# Altium schematic symbol library Devel_AirScoutSchLibV3.0.SchLib: 54 symbols
Pins are listed as number, name and electrical type; pins without a type are passive.

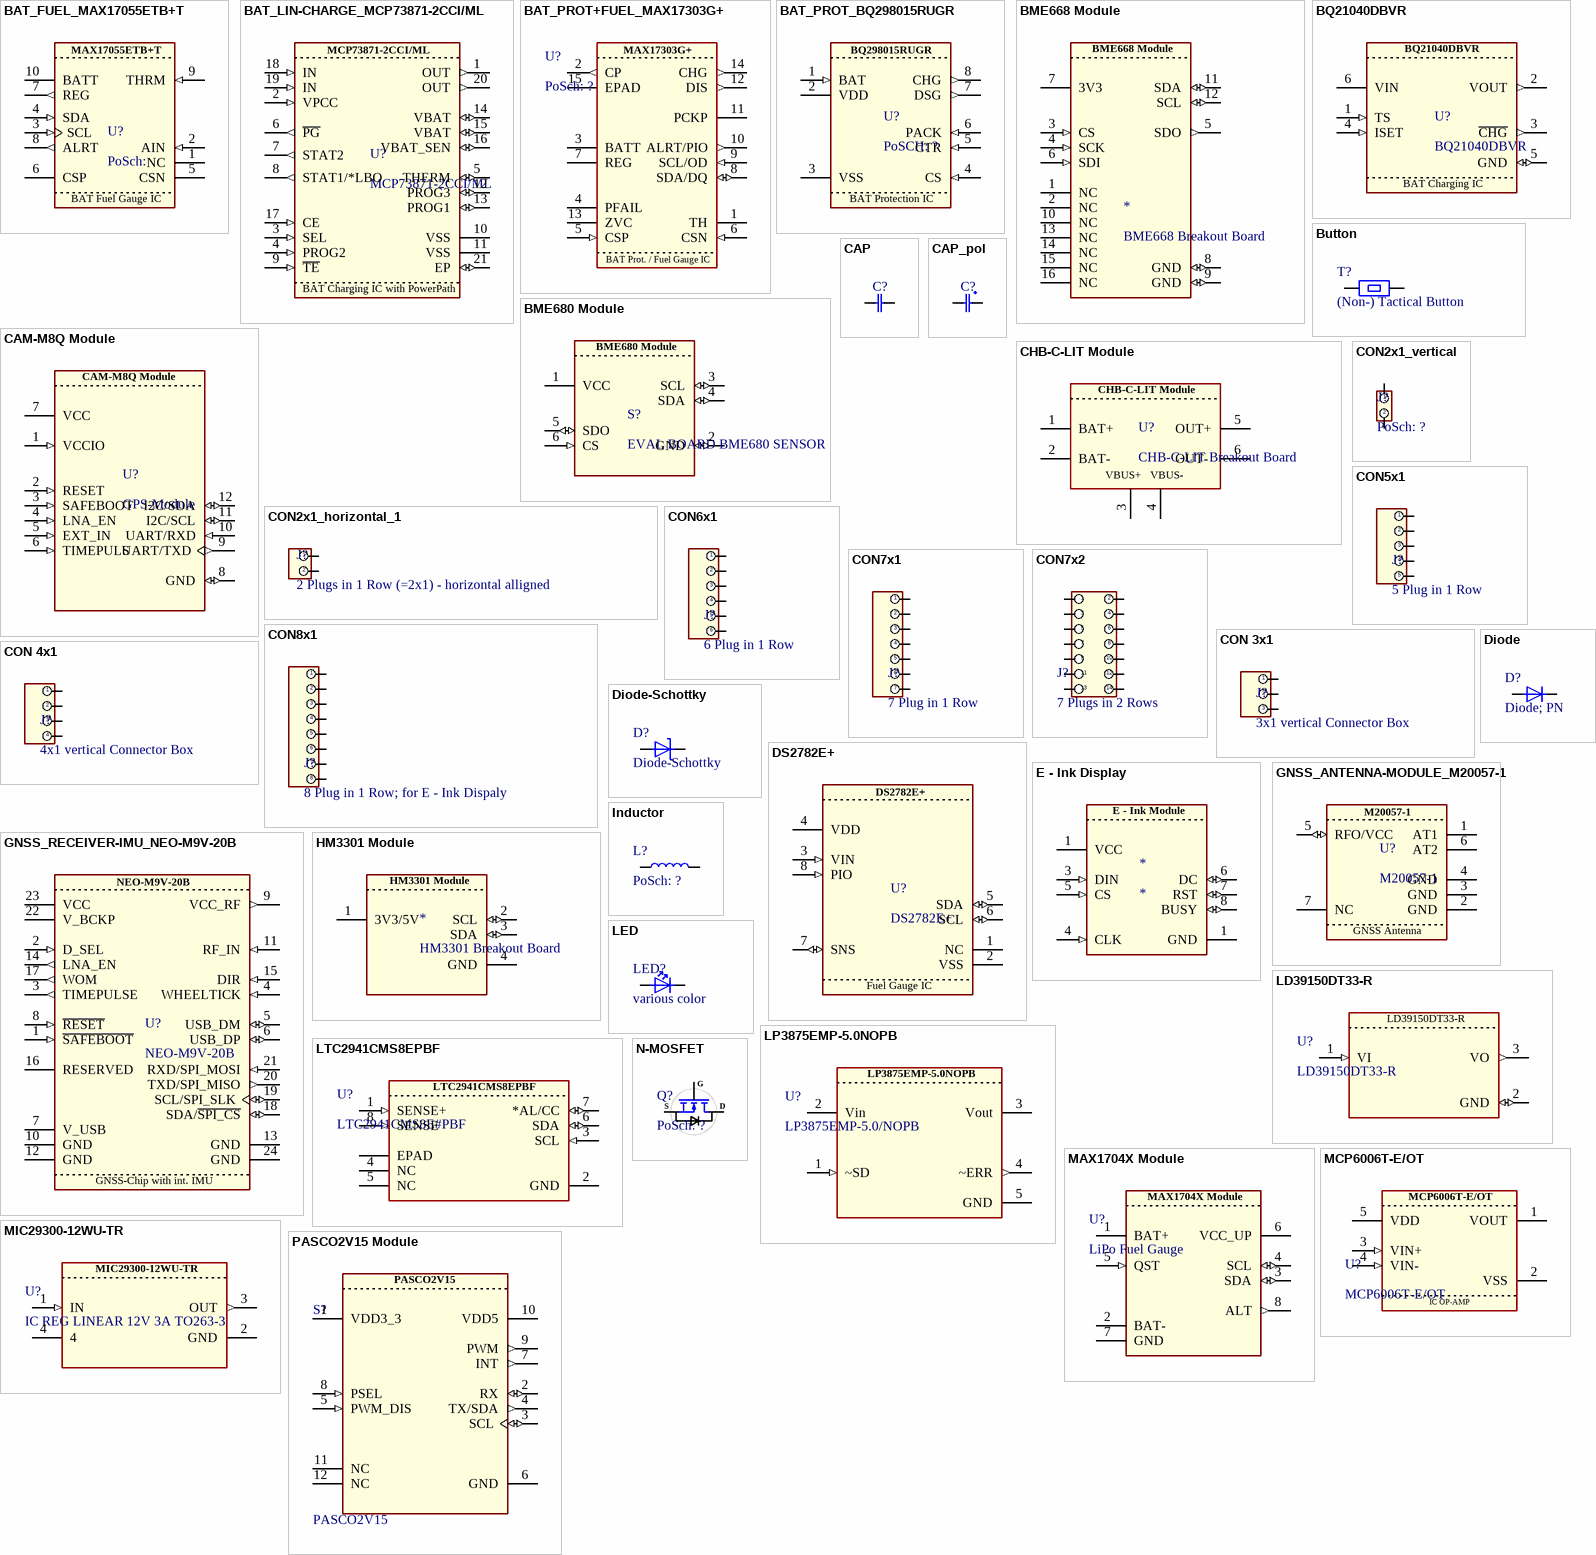
[diagram p0: symbols BAT_FUEL_MAX17055ETB+T to PASCO2V15 Module]

## BAT_FUEL_MAX17055ETB+T
designator U?, comment PoSch:
MAX17055ETB+T, Battery Battery Monitor IC Multi-Chemistry 10-TDFN (2.5x2); MF: Maxim Integrated Products; Check_prices: https://www.snapeda.com/parts/MAX17055ETB+T/Maxim+Integrated/view-part/?ref=eda; Package: None; MP: MAX17055ETB+T; Case: 10-WFDFN mit freiliegendem Pad; Availability: In Stock; Purchase-URL: https://pricing.snapeda.com/search/part/MAX17055ETB+T/?ref=eda; SnapEDA_Link: https://www.snapeda.com/parts/MAX17055ETB+T/Maxim+Integrated/view-part/?ref=snap; Price: None; Supplier 1: Farnell; Supplier Part Number 1: MAX17055ETB+T; ComponentLink1Description: Datasheet; ComponentLink1URL: https://www.analog.com/media/en/technical-documentation/data-sheets/MAX17055.pdf
footprint BAT_FUEL_MAX17055ETB+T (MAX17055ETB+T Footprint; with 3D Model)
pins: 1 NC, 2 AIN (in), 3 SCL (in), 4 SDA (in), 5 CSN (power), 6 CSP (power), 7 REG (out), 8 ALRT (out), 9 THRM (in), 10 BATT (power)
text: BAT Fuel Gauge IC

## BAT_LIN-CHARGE_MCP73871-2CCI/ML
designator U?, comment MCP73871-2CCI/ML
MCP73871-2CCI/ML; Charger IC Lithium Ion/Polymer 20-QFN (4x4); MF: Microchip Technology; Package: QFN-20 Microchip; Price: None; Check_prices: https://www.snapeda.com/parts/MCP73871-2CCI/ML/Microchip/view-part/?ref=eda; Value: *; SnapEDA_Link: https://www.snapeda.com/parts/MCP73871-2CCI/ML/Microchip/view-part/?ref=snap; MP: MCP73871-2CCI/ML; Availability: In Stock; Purchase-URL: https://pricing.snapeda.com/search/part/MCP73871-2CCI/ML/?ref=eda; Supplier 1: Farnell; Supplier Part Number 1: MCP73871-2CCI/ML; ComponentLink1Description: Datasheet; ComponentLink1URL: https://www.mouser.at/datasheet/3/282/1/MCP73871_Data_Sheet_DS20002090F.pdf
footprint BAT_LIN-CHARGE_MCP73871-2CCI/ML (Footprint for MCP73871-2CCI/ML)
pins: 1 OUT (out), 2 VPCC (in), 3 SEL (in), 4 PROG2 (in), 5 THERM (io), 6 ~{PG} (out), 7 STAT2 (out), 8 STAT1/*LBO (out), 9 ~{TE} (in), 10 VSS (power), 11 VSS (power), 12 PROG3 (io), 13 PROG1 (io), 14 VBAT (io), 15 VBAT (io), 16 VBAT_SEN (io), 17 CE (in), 18 IN (in), 19 IN (in), 20 OUT (out), 21 EP (io)
text: BAT Charging IC with PowerPath

## BAT_PROT+FUEL_MAX17303G+
designator U?, comment PoSch: ?
MAX17303G+; 1-Cell ModelGauge m5 EZ Fuel Gauge with Protector, Internal Self-Discharge Detection and SHA-256 Authentication; Manufacturer_Name: Analog Devices Inc; Copyright: Copyright (C) 2025 Ultra Librarian. All rights reserved.; Manufacturer_Part_Number: MAX17303G+; RefDes: RefDes; Type: Type; ComponentLink1Description: Datasheet; ComponentLink1URL: https://www.analog.com/media/en/technical-documentation/data-sheets/max17300-max17313.pdf; Case: 14-TDFN (3x3); Supplier 1: Farnell; Supplier Part Number 1: MAX17303G+
footprint 21-0137I_T1433-2_MXM
pins: 1 TH, 2 CP (out), 3 BATT, 4 PFAIL, 5 CSP (in), 6 CSN (in), 7 REG, 8 SDA/DQ (io), 9 SCL/OD (in), 10 ALRT/PIO (out), 11 PCKP, 12 DIS (out), 13 ZVC, 14 CHG (out), 15 EPAD
text: BAT Prot. / Fuel Gauge IC

## BAT_PROT_BQ298015RUGR
designator U?, comment PoSCH: ?
Battery Battery Protection IC Lithium Ion/Polymer 8-X2QFN (1.5x1.5); MF: NXP USA; MP: NT3H1101W0FHK; Package: XQFN-8 NXP Semiconductors; Price: None; Case: 8-X2QFN (1.5x1.5); SnapEDA_Link: https://www.snapeda.com/parts/NT3H1101W0FHK/NXP+USA+Inc./view-part/?ref=snap; Availability: Not in stock; Check_prices: https://www.snapeda.com/parts/NT3H1101W0FHK/NXP+USA+Inc./view-part/?ref=eda; ComponentLink1Description: Datasheet; ComponentLink1URL: https://www.ti.com/lit/ds/symlink/bq2980.pdf; Supplier 1: DigiKey; Supplier Part Number 1: 296-BQ298015RUGRCT-ND
footprint BAT_PROT_BQ298015RUGR (BQ298015RUGR Footprint; with 3D-Model)
pins: 1 BAT (in), 2 VDD (power), 3 VSS, 4 CS (in), 5 CTR (in), 6 PACK (in), 7 DSG (out), 8 CHG (out)
text: BQ298015RUGR; BAT Protection IC

## BME668 Module
designator *, comment BME668 Breakout Board
BME668: Air Quality Sensors Combined gas, humidity, pressure and temperature sensor; The sensor is installed on an Breakout-Board wich has oll the needed peripherie.; ComponentLink1Description: Datasheet; ComponentLink1URL: chrome-extension://efaidnbmnnnibpcajpcglclefindmkaj/https://docs.rs-online.com/c92c/A700000008937254.pdf
pins: 1 NC (hiz), 2 NC (hiz), 3 CS (in), 4 SCK (in), 5 SDO (out), 6 SDI (in), 7 3V3 (power), 8 GND (io), 9 GND (io), 10 NC (hiz), 11 SDA (io), 12 SCL (io), 13 NC (hiz), 14 NC (hiz), 15 NC (hiz), 16 NC (hiz)

## BME680 Module
designator S?, comment EVAL BOARD BME680 SENSOR
BME680 - Gas, Feuchtigkeit, Druck, Temperatur Evaluierungsboards - Sensoren; ComponentLink1Description: Datasheet; ComponentLink1URL: chrome-extension://efaidnbmnnnibpcajpcglclefindmkaj/https://mm.digikey.com/Volume0/opasdata/d220001/medias/docus/854/PIM357_Web.pdf
footprint PIM357 (With BME680 Sensor)
pins: 1 VCC (power), 2 GND (io), 3 SCL (io), 4 SDA (io), 5 SDO (io), 6 CS (in)

## BQ21040DBVR
designator U?
OVP (Over-Voltage-Protection), SCP (Short-Circuit- Protection), OTP (Over - Temp. - Prot.); 1-cell, 0.8-A Li-ion and Li-polymer battery charger; MF: Texas Instruments; SnapEDA_Link: https://www.snapeda.com/parts/BQ21040DBVR/Texas+Instruments/view-part/?ref=snap; Package: SOT-23-6 Texas Instruments; Value: *; MP: BQ21040DBVR; Check_prices: https://www.snapeda.com/parts/BQ21040DBVR/Texas+Instruments/view-part/?ref=eda
footprint SOT95P280X145-6N
pins: 1 TS (in), 2 VOUT (out), 3 ~{CHG} (out), 4 ISET (in), 5 GND (io), 6 VIN (power)
text: BAT Charging IC

## Button
designator T?, comment (Non-) Tactical Button
This schematic footprint canm be used for various buttons, such as tactical ones or not. Be aware that all footprints for each part is added correctly
pins: 1, 1

## CAM-M8Q Module
designator U?, comment GPS-Module
Is used to locate the objects wehre it is implemented, The Breakout Board uses the CAM-M8Q-0 for location detection; ComponentLink1Description: Datasheet IC; ComponentLink1URL: chrome-extension://efaidnbmnnnibpcajpcglclefindmkaj/https://content.u-blox.com/sites/default/files/CAM-M8-FW3_DataSheet_%28UBX-15031574%29.pdf
footprint CAM8MQ-Mod (For SMD Soldering)
pins: 1 VCCIO (in), 2 RESET (in), 3 SAFEBOOT (in), 4 LNA_EN (in), 5 EXT_IN (in), 6 TIMEPULS (in), 7 VCC (power), 8 GND (io), 9 UART/TXD (out), 10 UART/RXD (in), 11 I2C/SCL (io), 12 I2C/SDA (io)

## CAP
designator C?, comment Capacitor with no polarity  (value not drawn)
This is an unpoled capacitor such as an ceramik or an Multi - Layer Cap. Put in here the description of your component.; Value: *
footprint CAPC340180_140N_KEM (Caseform: 1206 Imperial; for Caps)
pins: 1, 2

## CAP_pol
designator C?, comment Capacitor with polarity  (value not drawn)
This is an poled capacitor such as an ELKOP. Insure proper polartiy when connecting the pins of the cap. Put in here the description of your component.; Value: *
footprint CAPC3225X270N (CAP 1210 Imperial)
pins: 1 M, 2 P

## CHB-C-LIT Module
designator U?, comment CHB-C-LIT Breakout Board
Charging Board via USB-C; Battery is connected via Cabel on two Ports; The circuit gets supplied via other pads from the board; Attetion: This board should be replaced with a better one
pins: 1 BAT+ (power), 2 BAT- (power), 3 VBUS+ (power), 4 VBUS- (power), 5 OUT+ (power), 6 OUT-  (power)

## CON2x1_horizontal_1
designator J?, comment 2 Plugs in 1 Row (=2x1) - horizontal alligned
Can be used as connection point with cables between two board or to create a connectrion to a sensor
footprint JST_B2B-PH-SM4-TB
pins: 1 +, 2 -

## CON2x1_vertical
designator J?, comment PoSch: ?
PlugType:; ComponentLink1Description: Datasheet Plug; ComponentLink1URL: *
pins: 1 +, 2 -

## CON5x1
designator J?, comment 5 Plug in 1 Row
This part is used to plug in cables or a siutable Plug . So in that way a connection can be achieved between boards.
pins: 1, 2, 3, 4, 5

## CON6x1
designator J?, comment 6 Plug in 1 Row
This part is used to plug in cables or a siutable Plug . So in that way a connection can be achieved between boards.
footprint JST_B6B-PH-K-S
pins: 1, 2, 3, 4, 5, 6

## CON7x1
designator J?, comment 7 Plug in 1 Row
This part is used to plug in cables or a siutable Plug . So in that way a connection can be achieved between boards.
pins: 1, 2, 3, 4, 5, 6, 7

## CON7x2
designator J?, comment 7 Plugs in 2 Rows
This part is used to plug in cables or a siutable Plug . So in that way a connection can be achieved between boards.
footprint CONN_14POL_SAMTEC (0705430013)
pins: 1, 2, 3, 4, 5, 6, 7, 8, 9, 10, 11, 12, 13, 14

## CON8x1
designator J?, comment 8 Plug in 1 Row; for E - Ink Dispaly
This part is used to plug in cables or a siutable Plug . So in that way a connection can be achieved between boards.
pins: 1, 2, 3, 4, 5, 6, 7, 8

## CON 3x1
designator J?, comment 3x1 vertical Connector Box
Can be used to create connectivity between two plates with cables or similar.
footprint CONN_3POL_SAMTEC (0705430013)
pins: 1, 2, 3

## CON 4x1
designator J?, comment 4x1 vertical Connector Box
Can be used to create connectivity between two plates with cables or similar.
footprint SAMTEC_IDMS-04-S-02.00
pins: 1, 2, 3, 4

## Diode
designator D?, comment Diode; PN
Is used to block of current flow in one direction, Pay attetion to the maximum charactertcs
pins: 1 A, 2 K

## Diode-Schottky
designator D?
Is used to block of current flow in one direction, Pay attetion to the maximum charactertcs; In compariosion to other normal diodes the drop voltage UD is around 0.3V, so much smaller zthan an typical one
footprint SMB_DIO
pins: A, K

## DS2782E+
designator U?
UVP (Undervoltageprotection), Battery Battery Monitor IC Lithium Ion/Polymer 8-TSSOP; Package: None; Price: None; Value: *; MP: DS2782E+; Availability: Unavailable
footprint SOP65P640X110-8N
pins: 1 NC (power), 2 VSS (power), 3 VIN (in), 4 VDD (power), 5 SDA (io), 6 SCL (io), 7 SNS (io), 8 PIO (in)
text: Fuel Gauge IC

## E - Ink Display
designator *
pins: 1 VCC (power), 1 GND (power), 3 DIN (in), 4 CLK (in), 5 CS (in), 6 DC (io), 7 RST (io), 8 BUSY (io)
text: E - Ink Module

## GNSS_ANTENNA-MODULE_M20057-1
designator U?, comment M20057-1
M20057-1, 1.584GHz GNSS Chip RF Antenna 1.559GHz ~ 1.609GHz - Solder Surface Mount; MF: Antenova; SnapEDA_Link: https://www.snapeda.com/parts/M20057-1/Antenova/view-part/?ref=snap; Package: None; Value: *; MP: M20057-1; Check_prices: https://www.snapeda.com/parts/M20057-1/Antenova/view-part/?ref=eda; Supplier 1: Arrow Electronics; Supplier Part Number 1: M20057-1; ComponentLink1Description: Datasheet; ComponentLink1URL: https://www.antenova.com/active-gnss-module-m20057-1
footprint GNSS_ANTENNA-MODULE_M20057-1 (Footprint for M20057-1)
pins: 1 AT1, 2 GND (power), 3 GND (power), 4 GND (power), 5 RFO/VCC (io), 6 AT2, 7 NC
text: GNSS Antenna

## GNSS_RECEIVER-IMU_NEO-M9V-20B
designator U?, comment NEO-M9V-20B
NEO-M9V-20B, NEO-M9V RF Receiver BeiDou, Galileo, GLONASS, GNSS, GPS 1.561GHz -160dBm Not Included; MF: u-blox; SnapEDA_Link: https://www.snapeda.com/parts/NEO-M9V-20B/u-blox/view-part/?ref=snap; Package: None; Value: *; MP: NEO-M9V-20B; Check_prices: https://www.snapeda.com/parts/NEO-M9V-20B/u-blox/view-part/?ref=eda; Supplier 1: DigiKey; Supplier Part Number 1: 672-NEO-M9V-20BCT-ND; ComponentLink1Description: Datasheet; ComponentLink1URL: https://content.u-blox.com/sites/default/files/NEO-M9V-20B_DataSheet_UBX-21029781.pdf
footprint GNSS_RECEIVER-IMU_NEO-M9V-20B (Footprint for NEO-M9V-20B Chip)
pins: 1 ~{SAFEBOOT} (in), 2 D_SEL (in), 3 TIMEPULSE (out), 4 WHEELTICK (in), 5 USB_DM (io), 6 USB_DP (io), 7 V_USB (power), 8 ~{RESET} (in), 9 VCC_RF (out), 10 GND (power), 11 RF_IN (in), 12 GND (power), 13 GND (power), 14 LNA_EN (out), 15 DIR (in), 16 RESERVED, 17 WOM (out), 18 SDA/~{SPI_CS} (io), 19 SCL/SPI_SLK (io), 20 TXD/SPI_MISO (out), 21 RXD/SPI_MOSI (in), 22 V_BCKP (power), 23 VCC (power), 24 GND (power)
text: GNSS-Chip with int. IMU

## HM3301 Module
designator *, comment HM3301 Breakout Board
Der HM3301-Sensor ermittelt die Feinstaub-Partikelkonzentration in der Luft mit Hilfe des Streulichtverfahrens ab einer Partikelgröße von 0,3 µm.; ComponentLink1Description: Datasheet; ComponentLink1URL: chrome-extension://efaidnbmnnnibpcajpcglclefindmkaj/https://joy-it.net/files/files/Produkte/SEN-HM3301/SEN-HM3301_Datenblatt_2022-07-15.pdf; ComponentLink2Description: EU Component; ComponentLink2URL: https://joy-it.net/de/products/sen-hm3301
pins: 1 3V3/5V, 2 SCL (io), 3 SDA (io), 4 GND

## Inductor
designator L?, comment PoSch: ?
This is an inductor template for various sizes for inductors; Value: *
footprint IND_FDSD0420-H-100M=P3
pins: 1, 2

## LD39150DT33-R
designator U?
Ultra low drop BiCMOS voltage regulator; Manufacturer_Name: STMicroelectronics; Copyright: Copyright (C) 2025 Ultra Librarian. All rights reserved.; Manufacturer_Part_Number: LD39150DT33-R; Datasheet: https://www.st.com/resource/en/datasheet/ld39150.pdf; RefDes: RefDes; Type: Type
footprint SOT_0DT33-R_STM
pins: 1 VI (in), 2 GND (io), 3 VO (out)

## LED
designator LED?, comment various color
LED in diffrent colors
footprint LED_LTST-C150GKT_LTO
pins: 1 A, 2 K

## LP3875EMP-5.0NOPB
designator U?, comment LP3875EMP-5.0/NOPB
IC REG LINEAR 5V 1.5A SOT-223-5; Digikey Part-Nbr.: LP3875EMP-5.0/NOPBTR-ND; Manufacturer_Name: Texas Instruments; Type: LP3875EMP-1.8; Copyright: Copyright (C) 2025 Ultra Librarian. All rights reserved.; Manufacturer_Part_Number: LP3875EMP-5.0/NOPB; Datasheet: https://www.ti.com/lit/gpn/lp3875; RefDes: RefDes
footprint MP05A
pins: 1 ~SD (in), 2 Vin (power), 3 Vout (power), 4 ~ERR (out), 5 GND

## LTC2941CMS8EPBF
designator U?, comment LTC2941CMS8E#PBF
Battery Gas Gauge with I2C Interface; Manufacturer_Name: Analog Devices Inc; Copyright: Copyright (C) 2025 Ultra Librarian. All rights reserved.; Manufacturer_Part_Number: LTC2941CMS8E#PBF; Datasheet: https://www.analog.com/media/en/technical-documentation/data-sheets/LTC2941.pdf; RefDes: RefDes; Type: Type
footprint MSE_8_ADI-L
pins: 1 SENSE+ (in), 2 GND (power), 3 SCL (in), 4 NC, 5 NC, 6 SDA (io), 7 *AL/CC (io), 8 SENSE (in), EPAD

## MAX1704X Module
designator U?, comment LiPo Fuel Gauge
footprint MAX1704X Module (Breakout Board)
pins: 1 BAT+ (power), 2 BAT- (power), 3 SDA (io), 4 SCL (io), 5 QST (in), 6 VCC_UP (power), 7 GND (power), 8 ALT (out)

## MCP6006T-E/OT
designator U?
IC OPAMP GP 1 CIRCUIT SOT23-5
footprint SOT23-5-AP2202K_DIO-M
pins: 1 VOUT (power), 2 VSS (power), 3 VIN+ (in), 4 VIN- (in), 5 VDD (power)
text: IC OP-AMP

## MIC29300-12WU-TR
designator U?, comment IC REG LINEAR 12V 3A TO263-3
PMIC - Spannungsregler - Linear Positiv Fest 1 Ausgang 3A TO-263-3; Manufacturer_Name: Microchip; Manufacturer_Part_Number: MIC29300-12WU-TR; Copyright: Copyright (C) 2025 Ultra Librarian. All rights reserved.; RefDes: RefDes; Type: Type
footprint TO-263-3_MCH-M
pins: 1 IN (in), 2 GND (power), 3 OUT (out), 4

## N-MOSFET
designator Q?, comment PoSch: ?
In this component, the parasitic diode is included because it plays an important rolw hen analysing networks; ComponentLink1Description: Datasheet; ComponentLink1URL: *
pins: 1 D, 2 G, 3 S

## PASCO2V15 Module
designator S?, comment PASCO2V15
XENSIV PAS CO2 1.5; Alternate View: No; Symbol Type: XENSIV PAS CO2 1.5; Multiple Parts: No; ComponentLink1Description: Datasheet; ComponentLink1URL: chrome-extension://efaidnbmnnnibpcajpcglclefindmkaj/https://www.infineon.com/assets/row/public/documents/24/49/infineon-pasco2v01-datasheet-en.pdf?fileId=8ac78c8c80027ecd01809278f1af1ba2
footprint IFX-SMD-LG-MLGA-14-1-V_MODUL (Module, 2.54 mm Pitch, 14 Pin, 14.00 mm W X 13.80 mm L X 7.68 mm H Body)
pins: 1 VDD3_3 (power) "3.3V digital power supply", 2 RX (io) "UART receiver pin (3.3V domain)", 3 SCL (io) "I2C clock pin (3.3V domain)", 4 TX/SDA (out) "UART transmitter pin (3.3V domain) / I2C data pin (3.3V domain)", 5 PWM_DIS (in) "PWM disable input pin (3.3V domain)", 6 GND (power) "Ground", 7 INT (out) "Interrupt output pin (3.3V domain)", 8 PSEL (in) "Communication interface select input pin (3.3V domain)", 9 PWM (out) "PWM output pin (3.3V domain)", 10 VDD5 (power) "5V power supply for the IR emitter", 11 NC (power) "Connected to Ground", 12 NC "Not Connected"

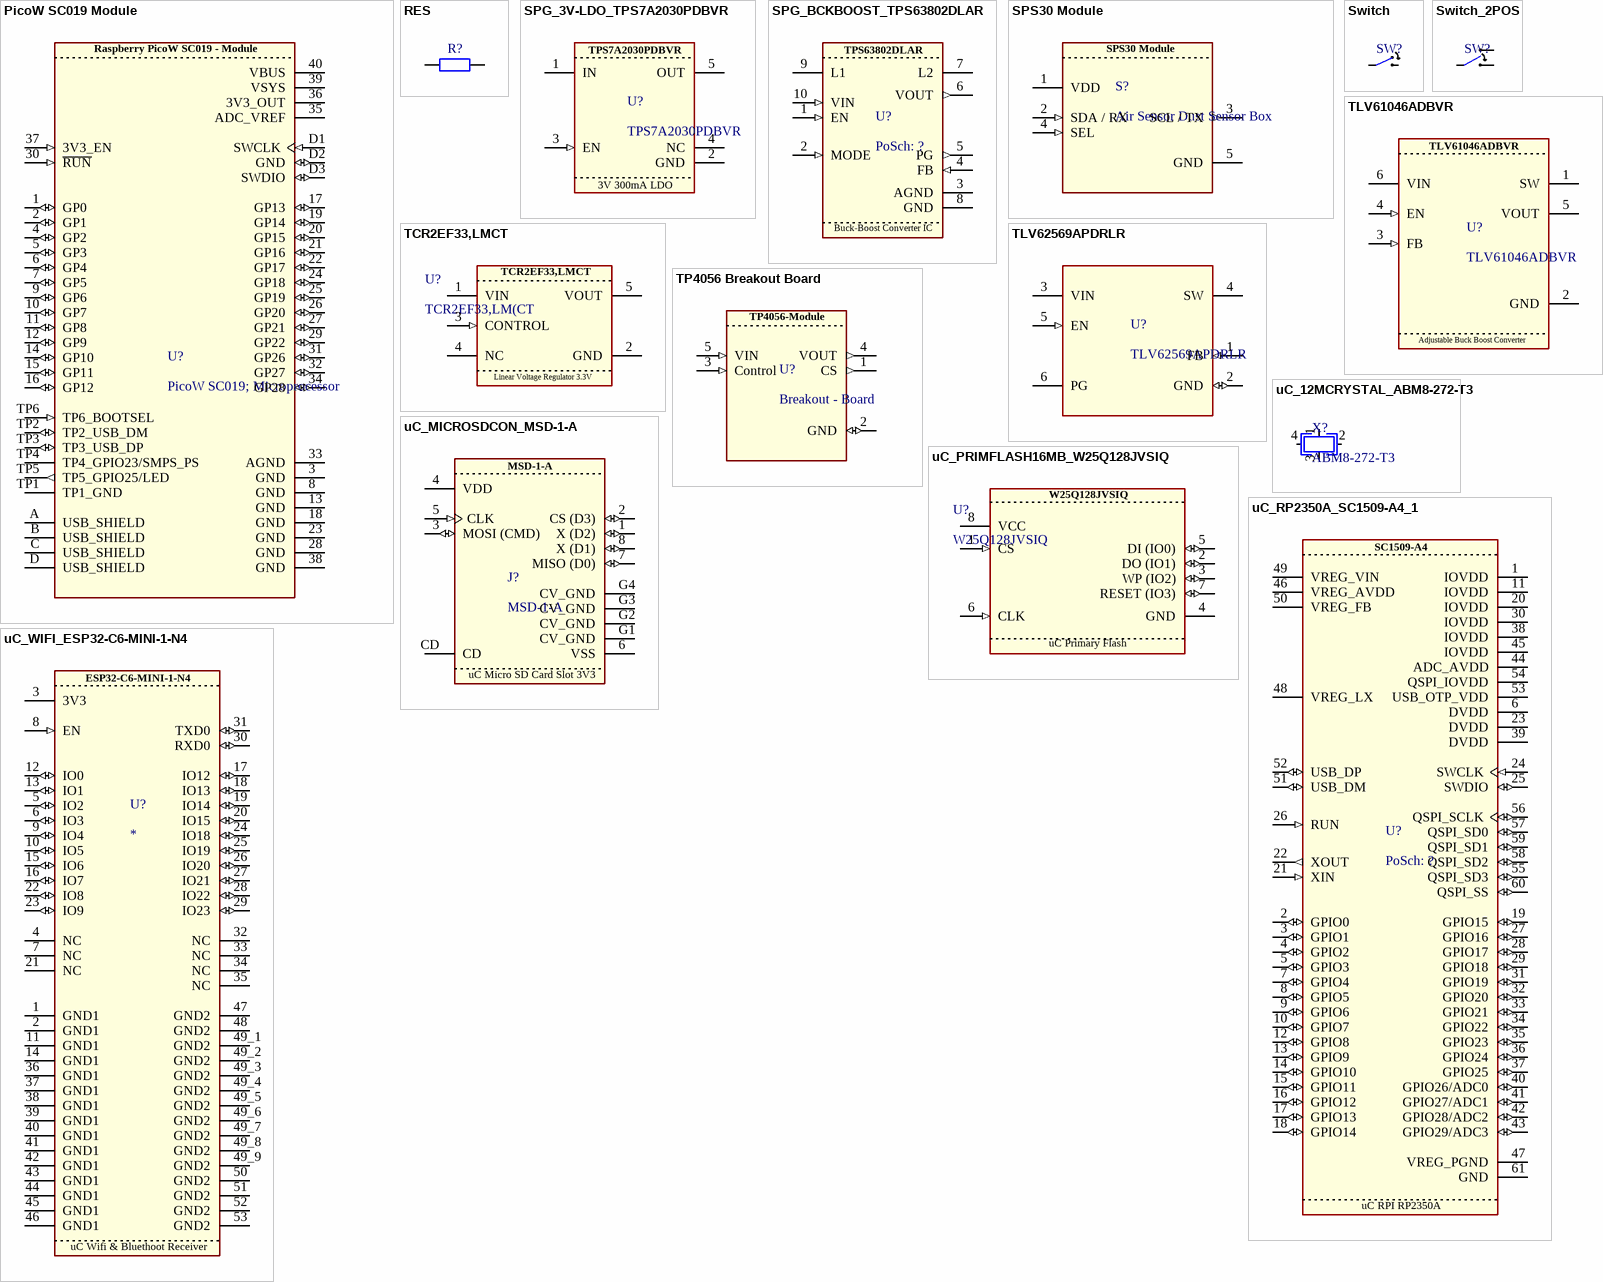
[diagram p1: symbols PicoW SC019 Module to uC_WIFI_ESP32-C6-MINI-1-N4]

## PicoW SC019 Module
designator U?, comment PicoW SC019; Microprocessor
Is a uC equipped with the Raspberry System. It can be bougth as an EU component. Look below in Paramters; ComponentLink1Description: EU Component; ComponentLink1URL: https://www.reichelt.at/at/de/shop/produkt/raspberry_pi_pico_rp2040_cortex-m0_microusb-295706; ComponentLink2Description: Datasheet; ComponentLink2URL: chrome-extension://efaidnbmnnnibpcajpcglclefindmkaj/https://datasheets.raspberrypi.com/picow/pico-w-datasheet.pdf
footprint PicoW SC019 (For Description look into Schematics)
pins: 1 GP0 (io), 2 GP1 (io), 3 GND (power), 4 GP2 (io), 5 GP3 (io), 6 GP4 (io), 7 GP5 (io), 8 GND (power), 9 GP6 (io), 10 GP7 (io), 11 GP8 (io), 12 GP9 (io), 13 GND (power), 14 GP10 (io), 15 GP11 (io), 16 GP12 (io), 17 GP13 (io), 18 GND (power), 19 GP14 (io), 20 GP15 (io), 21 GP16 (io), 22 GP17 (io), 23 GND (power), 24 GP18 (io), 25 GP19 (io), 26 GP20 (io), 27 GP21 (io), 28 GND (power), 29 GP22 (io), 30 ~{RUN} (in), 31 GP26 (io), 32 GP27 (io), 33 AGND (power), 34 GP28 (io), 35 ADC_VREF (power), 36 3V3_OUT (power), 37 3V3_EN (in), 38 GND (power), 39 VSYS (power), 40 VBUS (power), A USB_SHIELD (power), B USB_SHIELD (power), C USB_SHIELD (power), D USB_SHIELD (power), D1 SWCLK (in), D2 GND (io), D3 SWDIO (io), TP1 TP1_GND (power), TP2 TP2_USB_DM (io), TP3 TP3_USB_DP (io), TP4 TP4_GPIO23/SMPS_PS, TP5 TP5_GPIO25/LED (out), TP6 TP6_BOOTSEL (in)
text: Raspberry PicoW SC019 - Module

## RES
designator R?, comment RES, Resistor of any value  (value not drawn)
Put in here the type and descriüption of your component; Value: *
footprint RESC3116X65N (Caseform: 1206 Imperial)
pins: 1, 2

## SPG_3V-LDO_TPS7A2030PDBVR
designator U?, comment TPS7A2030PDBVR
TPS7A2030PDBVR; 300mA ultra-low-noise low-IQ low-dropout (LDO) linear regulator with high PSRR 5-SOT-23 -40 to 125; Manufacturer_Name: Texas Instruments; TYPE: TYPE; RefDes: RefDes; Copyright: Copyright (C) 2026 Ultra Librarian. All rights reserved.; Manufacturer_Part_Number: TPS7A2030PDBVR; Supplier 1: DigiKey; Supplier Part Number 1: 296-TPS7A2030PDBVRCT-ND; ComponentLink1Description: Datasheet; ComponentLink1URL: https://www.ti.com/lit/ds/symlink/tps7a20.pdf?HQS=dis-dk-null-digikeymode-dsf-pf-null-wwe&ts=1786789473190
footprint SPG_3V-LDO_TPS7A2030PDBVR (Fooprint for SOT23-5; TPS7A2030PDBVR)
pins: 1 IN (power), 2 GND (power), 3 EN (in), 4 NC, 5 OUT
text: 3V 300mA LDO

## SPG_BCKBOOST_TPS63802DLAR
designator U?, comment PoSch: ?
TPS63802DLARM; 2-A, high-efficient, 11-ÂµA quiescent current buck-boost converter in QFN/DFN package; MF: Texas Instruments; SnapEDA_Link: https://www.snapeda.com/parts/TPS63802DLAR/Texas+Instruments/view-part/?ref=snap; Package: VSON-HR-10 Texas Instruments; Case: 10-PowerVFDFN; MP: TPS63802DLAR; Check_prices: https://www.snapeda.com/parts/TPS63802DLAR/Texas+Instruments/view-part/?ref=eda; Supplier 1: DigiKey; Supplier Part Number 1: 296-TPS63802DLARDKR-ND; ComponentLink1Description: Datasheet; ComponentLink1URL: https://www.ti.com/lit/ds/symlink/tps63802.pdf
footprint SPG_BCKBOOST_TPS63802DLAR (Footprint of TPS63802DLAR)
pins: 1 EN (in), 2 MODE (in), 3 AGND (power), 4 FB (in), 5 PG (out), 6 VOUT (out), 7 L2, 8 GND (power), 9 L1, 10 VIN (in)
text: Buck-Boost Converter IC

## SPS30 Module
designator S?, comment Air Sensor Dust Sensor Box
ComponentLink1Description: Datasheet; ComponentLink1URL: https://sensirion.com/media/documents/8600FF88/64A3B8D6/Sensirion_PM_Sensors_Datasheet_SPS30.pdf; ComponentLink2Description: EU Component; ComponentLink2URL: https://www.digikey.at/en/products/detail/sensirion-ag/SPS30/9598990?gclsrc=aw.ds&gad_source=1&gad_campaignid=9415055229&gbraid=0AAAAADrbLlghU28cdFM9RQIiS448Os4NQ&gclid=Cj0KCQjwzt_FBhCEARIsAJGFWVladtv1vxGMu0RXHFTM9ng6qsDvV838Q-BR2Fl5FYFzWahIkC0y_aYaAqE3EALw_wcB
footprint CONN5_B5B-ZR_JST
pins: 1 VDD, 2 SDA / RX (in), 3 SCL / TX (out), 4 SEL (in), 5 GND

## Switch
designator SW?, comment PoSch: ?  (value not drawn)
2 Postions (ON/OFF); ComponentLink1Description: Datasheet; ComponentLink1URL: *
pins: 1, 2

## Switch_2POS
designator SW?, comment PoSch: ?  (value not drawn)
2 Postions (1/2); ComponentLink1Description: Datasheet; ComponentLink1URL: *
footprint SWITCH_2POS (ON-ON)
pins: 1, 2, 3

## TCR2EF33,LMCT
designator U?, comment TCR2EF33,LM(CT
IC REG LINEAR 3.3V 200MA SMV; Manufacturer_Name: Toshiba Electronic Devices & Storage Corp.; Copyright: Copyright (C) 2025 Ultra Librarian. All rights reserved.; Manufacturer_Part_Number: TCR2EF33,LM(CT; RefDes: RefDes; Type: Type
footprint SOT-25   SMV_TOS
pins: 1 VIN (power), 2 GND (power), 3 CONTROL (in), 4 NC, 5 VOUT (power)
text: Linear Voltage Regulator 3.3V

## TLV61046ADBVR
designator U?
28-V Output Voltage Boost Converter with Power Diode and Isolation Switch 6-SOT-23 -40 to 125; Manufacturer_Name: Texas Instruments; TYPE: TYPE; RefDes: RefDes; Copyright: Copyright (C) 2025 Ultra Librarian. All rights reserved.; Manufacturer_Part_Number: TLV61046ADBVR
footprint DBV0006A_M
pins: 1 SW (power), 2 GND (power), 3 FB (in), 4 EN (in), 5 VOUT (power), 6 VIN (power)
text: Adjustable Buck Boost Converter

## TLV62569APDRLR
designator U?
2A High Efficiency Step-down Buck Converter with forced PWM in SOT Package 6-SOT-5X3 -40 to 125; Manufacturer_Name: Texas Instruments; TYPE: TYPE; RefDes: RefDes; Copyright: Copyright (C) 2025 Ultra Librarian. All rights reserved.; Manufacturer_Part_Number: TLV62569APDRLR; Datasheet: https://www.ti.com/lit/gpn/tlv62569a
footprint DRL0006A
pins: 1 FB (in), 2 GND (io), 3 VIN (power), 4 SW (power), 5 EN (in), 6 PG (oc)

## TP4056 Breakout Board
designator U?, comment Breakout - Board
This is an Breakout Board designed for the TP4056, an Mikrocontroller which us used for Charging Batterys
pins: 1 CS (out), 2 GND (io), 3 Control (in), 4 VOUT (out), 5 VIN (in)
text: TP4056-Module

## uC_12MCRYSTAL_ABM8-272-T3
designator X?, comment ABM8-272-T3
ABM8-272-T3; CRYSTAL 12.0000MHZ 10PF SMD; Manufacturer_Name: Abracon; Type: Crystals; Copyright: Copyright (C) 2026 Ultra Librarian. All rights reserved.; Manufacturer_Part_Number: ABM8-272-T3; RefDes: RefDes; ComponentLink1Description: Datasheet; ComponentLink1URL: https://abracon.com/datasheets/ABM8-272-T3.pdf; Supplier 1: Arrow Electronics; Supplier Part Number 1: ABM8-272-T3
footprint uC_12MCRYSTAL_ABM8-272-T3_ABR
pins: 1, 2, 3, 4

## uC_MICROSDCON_MSD-1-A
designator J?, comment MSD-1-A
Micro SD Card Connector, 9 Positions, Connector and Ejector, Push In, Auto Eject Out, Surface Mount, 1.8 mm Height Above Board, Gold Flash; MF: Same Sky; SnapEDA_Link: https://www.snapeda.com/parts/MSD-1-A/Same+Sky/view-part/?ref=snap; Package: None; MP: MSD-1-A; Check_prices: https://www.snapeda.com/parts/MSD-1-A/Same+Sky/view-part/?ref=eda; Supplier 1: Arrow Electronics; Supplier Part Number 1: MSD-1-A; ComponentLink1Description: Datasheet; ComponentLink1URL: https://www.sameskydevices.com/product/resource/msd-1-a.pdf
footprint uC_MICROSDCON_MSD-1-A (MSD-1-A footprint)
pins: 1 X (D2) (io), 2 CS (D3) (io), 3 MOSI (CMD) (io), 4 VDD (power), 5 CLK (in), 6 VSS (power), 7 MISO (D0) (io), 8 X (D1) (io), CD, G1 CV_GND (power), G2 CV_GND (power), G3 CV_GND (power), G4 CV_GND (power)
text: uC Micro SD Card Slot 3V3

## uC_PRIMFLASH16MB_W25Q128JVSIQ
designator U?, comment W25Q128JVSIQ
W25Q128JVSIQ; IC FLASH 128MBIT SPI/QUAD 8SOIC; Manufacturer_Name: Winbond; Copyright: Copyright (C) 2026 Ultra Librarian. All rights reserved.; Manufacturer_Part_Number: W25Q128JVSIQ; RefDes: RefDes; Type: Type; Supplier 1: DigiKey; Supplier Part Number 1: W25Q128JVSIQ-ND; ComponentLink1Description: Datasheet; ComponentLink1URL: https://mm.digikey.com/Volume0/opasdata/d220001/medias/docus/7161/256_W25Q128JV.pdf
footprint uC_PRIMFLASH16MB_W25Q128JVSIQ (W25Q128JVSIQ footprint; SOIC_128JVSIQ_WIN)
pins: 1 CS (in), 2 DO (IO1) (io), 3 WP (IO2) (io), 4 GND (power), 5 DI (IO0) (io), 6 CLK (in), 7 RESET (IO3) (io), 8 VCC (power)
text: uC Primary Flash

## uC_RP2350A_SC1509-A4_1
designator U?, comment PoSch: ?
RP2350; ARM® Cortex®-M33 - Mikrocontroller IC 32-Bit 150MHz Externer Programmspeicher 60-QFN (7x7); MF: Raspberry Pi; MP: SC1509-A4; SnapEDA_Link: https://www.snapeda.com/parts/SC1509-A4/Raspberry+Pi/view-part/?ref=snap; Package: None; Case: 60-QFN (7x7); Check_prices: https://www.snapeda.com/parts/SC1509-A4/Raspberry+Pi/view-part/?ref=eda; Supplier 1: DigiKey; Supplier Part Number 1: 2648-SC1509-A4DKR-ND; ComponentLink1Description: Datasheet; ComponentLink1URL: https://pip-assets.raspberrypi.com/categories/1214-rp2350/documents/RP-008373-DS-2-rp2350-datasheet.pdf
footprint uC_RP2350A_SC1509-A4_1 (QFN40P700X700X90-61N; Footprint of SC1509-A4_1)
pins: 1 IOVDD (power), 2 GPIO0 (io), 3 GPIO1 (io), 4 GPIO2 (io), 5 GPIO3 (io), 6 DVDD (power), 7 GPIO4 (io), 8 GPIO5 (io), 9 GPIO6 (io), 10 GPIO7 (io), 11 IOVDD (power), 12 GPIO8 (io), 13 GPIO9 (io), 14 GPIO10 (io), 15 GPIO11 (io), 16 GPIO12 (io), 17 GPIO13 (io), 18 GPIO14 (io), 19 GPIO15 (io), 20 IOVDD (power), 21 XIN (in), 22 XOUT (out), 23 DVDD (power), 24 SWCLK (in), 25 SWDIO (io), 26 RUN (in), 27 GPIO16 (io), 28 GPIO17 (io), 29 GPIO18 (io), 30 IOVDD (power), 31 GPIO19 (io), 32 GPIO20 (io), 33 GPIO21 (io), 34 GPIO22 (io), 35 GPIO23 (io), 36 GPIO24 (io), 37 GPIO25 (io), 38 IOVDD (power), 39 DVDD (power), 40 GPIO26/ADC0 (io), 41 GPIO27/ADC1 (io), 42 GPIO28/ADC2 (io), 43 GPIO29/ADC3 (io), 44 ADC_AVDD (power), 45 IOVDD (power), 46 VREG_AVDD (power), 47 VREG_PGND (power), 48 VREG_LX, 49 VREG_VIN (power), 50 VREG_FB, 51 USB_DM (io), 52 USB_DP (io), 53 USB_OTP_VDD (power), 54 QSPI_IOVDD (power), 55 QSPI_SD3 (io), 56 QSPI_SCLK (io), 57 QSPI_SD0 (io), 58 QSPI_SD2 (io), 59 QSPI_SD1 (io), 60 QSPI_SS (io), 61 GND (power)
text: uC RPI RP2350A

## uC_WIFI_ESP32-C6-MINI-1-N4
designator U?
ESP32-C6-MINI-1-N4; 802.15.4, Bluetooth, WiFi 802.11ax, Bluetooth v5.0, ZigbeeÂ® Transceiver Module 2.4GHz Antenna Not Included Surface Mount; MF: Espressif Systems; SnapEDA_Link: https://www.snapeda.com/parts/ESP32-C6-MINI-1-N4/Espressif+Systems/view-part/?ref=snap; Package: SMD-53 Espressif Systems; Value: *; MP: ESP32-C6-MINI-1-N4; Check_prices: https://www.snapeda.com/parts/ESP32-C6-MINI-1-N4/Espressif+Systems/view-part/?ref=eda
footprint uC_WIFI_ESP32-C6-MINI-1-N4 (Footprint for ESP32-C6-MINI-1-N4)
pins: 1 GND1 (power), 2 GND1 (power), 3 3V3 (power), 4 NC, 5 IO2 (io), 6 IO3 (io), 7 NC, 8 EN (in), 9 IO4 (io), 10 IO5 (io), 11 GND1 (power), 12 IO0 (io), 13 IO1 (io), 14 GND1 (power), 15 IO6 (io), 16 IO7 (io), 17 IO12 (io), 18 IO13 (io), 19 IO14 (io), 20 IO15 (io), 21 NC, 22 IO8 (io), 23 IO9 (io), 24 IO18 (io), 25 IO19 (io), 26 IO20 (io), 27 IO21 (io), 28 IO22 (io), 29 IO23 (io), 30 RXD0 (io), 31 TXD0 (io), 32 NC, 33 NC, 34 NC, 35 NC, 36 GND1 (power), 37 GND1 (power), 38 GND1 (power), 39 GND1 (power), 40 GND1 (power), 41 GND1 (power), 42 GND1 (power), 43 GND1 (power), 44 GND1 (power), 45 GND1 (power), 46 GND1 (power), 47 GND2 (power), 48 GND2 (power), 49_1 GND2 (power), 49_2 GND2 (power), 49_3 GND2 (power), 49_4 GND2 (power), 49_5 GND2 (power), 49_6 GND2 (power), 49_7 GND2 (power), 49_8 GND2 (power), 49_9 GND2 (power), 50 GND2 (power), 51 GND2 (power), 52 GND2 (power), 53 GND2 (power)
text: uC Wifi & Bluethoot Receiver